# Altium schematic symbol library SCH - MCU - NUVOTON - NUVOTON M254KG6AE.SchLib: 1 symbol
Pins are listed as number, name and electrical type; pins without a type are passive.

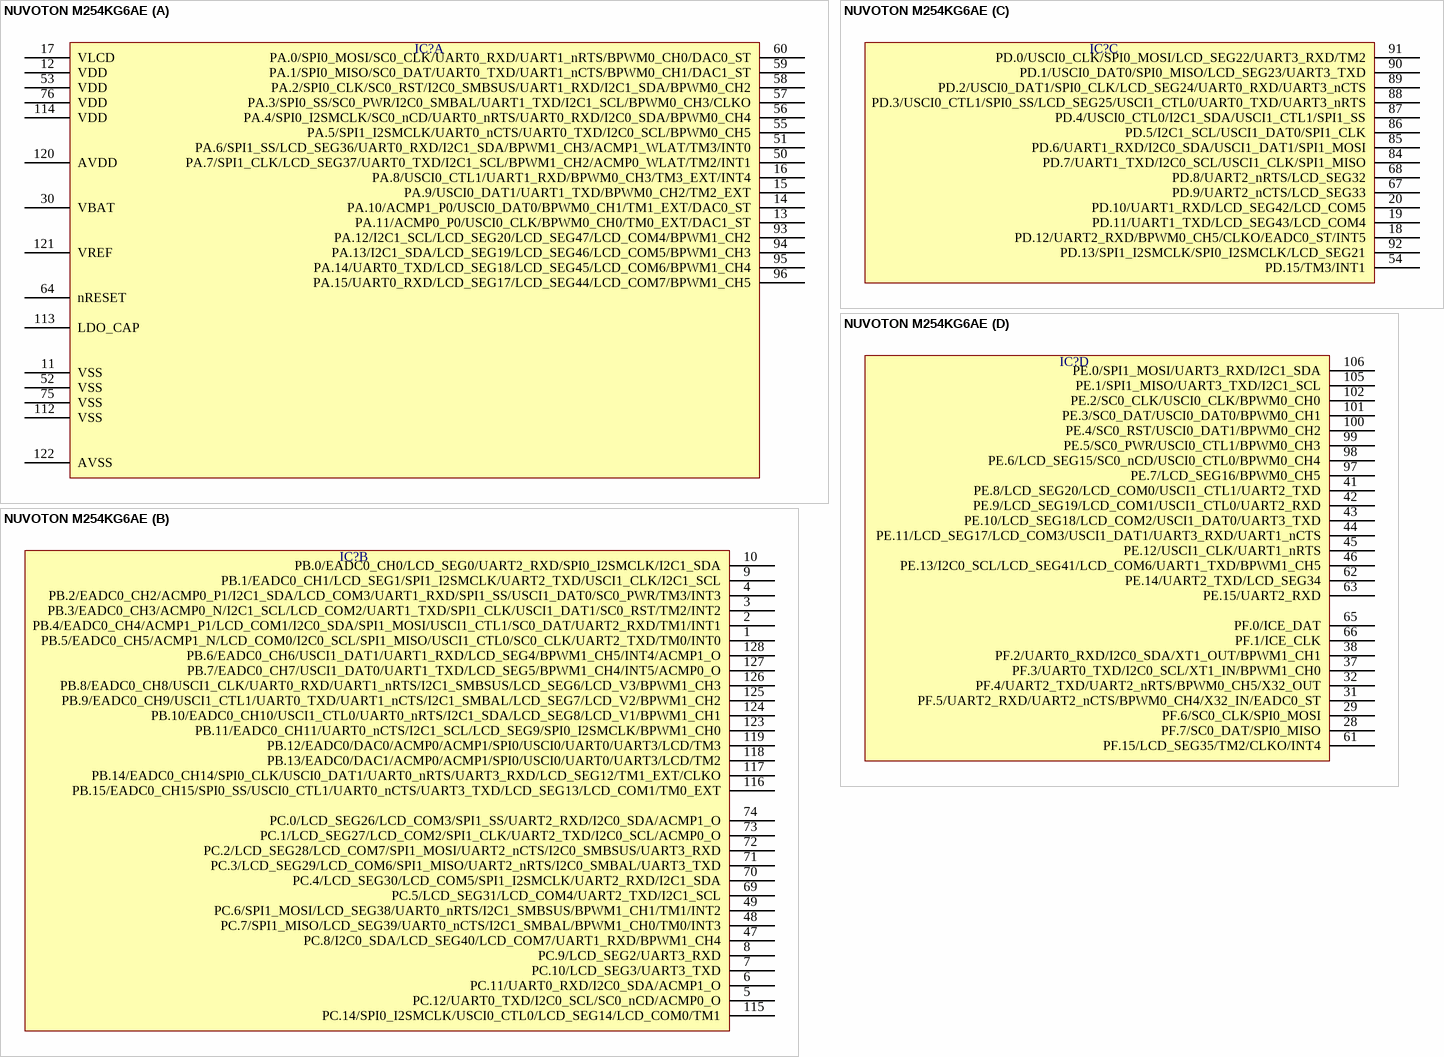
[diagram p0: symbol NUVOTON M254KG6AE]

## NUVOTON M254KG6AE
designator IC?  (value not drawn)
part A pins: 11 VSS, 12 VDD, 13 PA.11/ACMP0_P0/USCI0_CLK/BPWM0_CH0/TM0_EXT/DAC1_ST, 14 PA.10/ACMP1_P0/USCI0_DAT0/BPWM0_CH1/TM1_EXT/DAC0_ST, 15 PA.9/USCI0_DAT1/UART1_TXD/BPWM0_CH2/TM2_EXT, 16 PA.8/USCI0_CTL1/UART1_RXD/BPWM0_CH3/TM3_EXT/INT4, 17 VLCD, 30 VBAT, 50 PA.7/SPI1_CLK/LCD_SEG37/UART0_TXD/I2C1_SCL/BPWM1_CH2/ACMP0_WLAT/TM2/INT1, 51 PA.6/SPI1_SS/LCD_SEG36/UART0_RXD/I2C1_SDA/BPWM1_CH3/ACMP1_WLAT/TM3/INT0, 52 VSS, 53 VDD, 55 PA.5/SPI1_I2SMCLK/UART0_nCTS/UART0_TXD/I2C0_SCL/BPWM0_CH5, 56 PA.4/SPI0_I2SMCLK/SC0_nCD/UART0_nRTS/UART0_RXD/I2C0_SDA/BPWM0_CH4, 57 PA.3/SPI0_SS/SC0_PWR/I2C0_SMBAL/UART1_TXD/I2C1_SCL/BPWM0_CH3/CLKO, 58 PA.2/SPI0_CLK/SC0_RST/I2C0_SMBSUS/UART1_RXD/I2C1_SDA/BPWM0_CH2, 59 PA.1/SPI0_MISO/SC0_DAT/UART0_TXD/UART1_nCTS/BPWM0_CH1/DAC1_ST, 60 PA.0/SPI0_MOSI/SC0_CLK/UART0_RXD/UART1_nRTS/BPWM0_CH0/DAC0_ST, 64 nRESET, 75 VSS, 76 VDD, 93 PA.12/I2C1_SCL/LCD_SEG20/LCD_SEG47/LCD_COM4/BPWM1_CH2, 94 PA.13/I2C1_SDA/LCD_SEG19/LCD_SEG46/LCD_COM5/BPWM1_CH3, 95 PA.14/UART0_TXD/LCD_SEG18/LCD_SEG45/LCD_COM6/BPWM1_CH4, 96 PA.15/UART0_RXD/LCD_SEG17/LCD_SEG44/LCD_COM7/BPWM1_CH5, 112 VSS, 113 LDO_CAP, 114 VDD, 120 AVDD, 121 VREF, 122 AVSS
part B pins: 1 PB.5/EADC0_CH5/ACMP1_N/LCD_COM0/I2C0_SCL/SPI1_MISO/USCI1_CTL0/SC0_CLK/UART2_TXD/TM0/INT0, 2 PB.4/EADC0_CH4/ACMP1_P1/LCD_COM1/I2C0_SDA/SPI1_MOSI/USCI1_CTL1/SC0_DAT/UART2_RXD/TM1/INT1, 3 PB.3/EADC0_CH3/ACMP0_N/I2C1_SCL/LCD_COM2/UART1_TXD/SPI1_CLK/USCI1_DAT1/SC0_RST/TM2/INT2, 4 PB.2/EADC0_CH2/ACMP0_P1/I2C1_SDA/LCD_COM3/UART1_RXD/SPI1_SS/USCI1_DAT0/SC0_PWR/TM3/INT3, 5 PC.12/UART0_TXD/I2C0_SCL/SC0_nCD/ACMP0_O, 6 PC.11/UART0_RXD/I2C0_SDA/ACMP1_O, 7 PC.10/LCD_SEG3/UART3_TXD, 8 PC.9/LCD_SEG2/UART3_RXD, 9 PB.1/EADC0_CH1/LCD_SEG1/SPI1_I2SMCLK/UART2_TXD/USCI1_CLK/I2C1_SCL, 10 PB.0/EADC0_CH0/LCD_SEG0/UART2_RXD/SPI0_I2SMCLK/I2C1_SDA, 47 PC.8/I2C0_SDA/LCD_SEG40/LCD_COM7/UART1_RXD/BPWM1_CH4, 48 PC.7/SPI1_MISO/LCD_SEG39/UART0_nCTS/I2C1_SMBAL/BPWM1_CH0/TM0/INT3, 49 PC.6/SPI1_MOSI/LCD_SEG38/UART0_nRTS/I2C1_SMBSUS/BPWM1_CH1/TM1/INT2, 69 PC.5/LCD_SEG31/LCD_COM4/UART2_TXD/I2C1_SCL, 70 PC.4/LCD_SEG30/LCD_COM5/SPI1_I2SMCLK/UART2_RXD/I2C1_SDA, 71 PC.3/LCD_SEG29/LCD_COM6/SPI1_MISO/UART2_nRTS/I2C0_SMBAL/UART3_TXD, 72 PC.2/LCD_SEG28/LCD_COM7/SPI1_MOSI/UART2_nCTS/I2C0_SMBSUS/UART3_RXD, 73 PC.1/LCD_SEG27/LCD_COM2/SPI1_CLK/UART2_TXD/I2C0_SCL/ACMP0_O, 74 PC.0/LCD_SEG26/LCD_COM3/SPI1_SS/UART2_RXD/I2C0_SDA/ACMP1_O, 115 PC.14/SPI0_I2SMCLK/USCI0_CTL0/LCD_SEG14/LCD_COM0/TM1, 116 PB.15/EADC0_CH15/SPI0_SS/USCI0_CTL1/UART0_nCTS/UART3_TXD/LCD_SEG13/LCD_COM1/TM0_EXT, 117 PB.14/EADC0_CH14/SPI0_CLK/USCI0_DAT1/UART0_nRTS/UART3_RXD/LCD_SEG12/TM1_EXT/CLKO, 118 PB.13/EADC0/DAC1/ACMP0/ACMP1/SPI0/USCI0/UART0/UART3/LCD/TM2, 119 PB.12/EADC0/DAC0/ACMP0/ACMP1/SPI0/USCI0/UART0/UART3/LCD/TM3, 123 PB.11/EADC0_CH11/UART0_nCTS/I2C1_SCL/LCD_SEG9/SPI0_I2SMCLK/BPWM1_CH0, 124 PB.10/EADC0_CH10/USCI1_CTL0/UART0_nRTS/I2C1_SDA/LCD_SEG8/LCD_V1/BPWM1_CH1, 125 PB.9/EADC0_CH9/USCI1_CTL1/UART0_TXD/UART1_nCTS/I2C1_SMBAL/LCD_SEG7/LCD_V2/BPWM1_CH2, 126 PB.8/EADC0_CH8/USCI1_CLK/UART0_RXD/UART1_nRTS/I2C1_SMBSUS/LCD_SEG6/LCD_V3/BPWM1_CH3, 127 PB.7/EADC0_CH7/USCI1_DAT0/UART1_TXD/LCD_SEG5/BPWM1_CH4/INT5/ACMP0_O, 128 PB.6/EADC0_CH6/USCI1_DAT1/UART1_RXD/LCD_SEG4/BPWM1_CH5/INT4/ACMP1_O
part C pins: 18 PD.12/UART2_RXD/BPWM0_CH5/CLKO/EADC0_ST/INT5, 19 PD.11/UART1_TXD/LCD_SEG43/LCD_COM4, 20 PD.10/UART1_RXD/LCD_SEG42/LCD_COM5, 54 PD.15/TM3/INT1, 67 PD.9/UART2_nCTS/LCD_SEG33, 68 PD.8/UART2_nRTS/LCD_SEG32, 84 PD.7/UART1_TXD/I2C0_SCL/USCI1_CLK/SPI1_MISO, 85 PD.6/UART1_RXD/I2C0_SDA/USCI1_DAT1/SPI1_MOSI, 86 PD.5/I2C1_SCL/USCI1_DAT0/SPI1_CLK, 87 PD.4/USCI0_CTL0/I2C1_SDA/USCI1_CTL1/SPI1_SS, 88 PD.3/USCI0_CTL1/SPI0_SS/LCD_SEG25/USCI1_CTL0/UART0_TXD/UART3_nRTS, 89 PD.2/USCI0_DAT1/SPI0_CLK/LCD_SEG24/UART0_RXD/UART3_nCTS, 90 PD.1/USCI0_DAT0/SPI0_MISO/LCD_SEG23/UART3_TXD, 91 PD.0/USCI0_CLK/SPI0_MOSI/LCD_SEG22/UART3_RXD/TM2, 92 PD.13/SPI1_I2SMCLK/SPI0_I2SMCLK/LCD_SEG21
part D pins: 28 PF.7/SC0_DAT/SPI0_MISO, 29 PF.6/SC0_CLK/SPI0_MOSI, 31 PF.5/UART2_RXD/UART2_nCTS/BPWM0_CH4/X32_IN/EADC0_ST, 32 PF.4/UART2_TXD/UART2_nRTS/BPWM0_CH5/X32_OUT, 37 PF.3/UART0_TXD/I2C0_SCL/XT1_IN/BPWM1_CH0, 38 PF.2/UART0_RXD/I2C0_SDA/XT1_OUT/BPWM1_CH1, 41 PE.8/LCD_SEG20/LCD_COM0/USCI1_CTL1/UART2_TXD, 42 PE.9/LCD_SEG19/LCD_COM1/USCI1_CTL0/UART2_RXD, 43 PE.10/LCD_SEG18/LCD_COM2/USCI1_DAT0/UART3_TXD, 44 PE.11/LCD_SEG17/LCD_COM3/USCI1_DAT1/UART3_RXD/UART1_nCTS, 45 PE.12/USCI1_CLK/UART1_nRTS, 46 PE.13/I2C0_SCL/LCD_SEG41/LCD_COM6/UART1_TXD/BPWM1_CH5, 61 PF.15/LCD_SEG35/TM2/CLKO/INT4, 62 PE.14/UART2_TXD/LCD_SEG34, 63 PE.15/UART2_RXD, 65 PF.0/ICE_DAT, 66 PF.1/ICE_CLK, 97 PE.7/LCD_SEG16/BPWM0_CH5, 98 PE.6/LCD_SEG15/SC0_nCD/USCI0_CTL0/BPWM0_CH4, 99 PE.5/SC0_PWR/USCI0_CTL1/BPWM0_CH3, 100 PE.4/SC0_RST/USCI0_DAT1/BPWM0_CH2, 101 PE.3/SC0_DAT/USCI0_DAT0/BPWM0_CH1, 102 PE.2/SC0_CLK/USCI0_CLK/BPWM0_CH0, 105 PE.1/SPI1_MISO/UART3_TXD/I2C1_SCL, 106 PE.0/SPI1_MOSI/UART3_RXD/I2C1_SDA